# Altium schematic symbol library HighFrequency.SchLib: 4 symbols
Pins are listed as number, name and electrical type; pins without a type are passive.

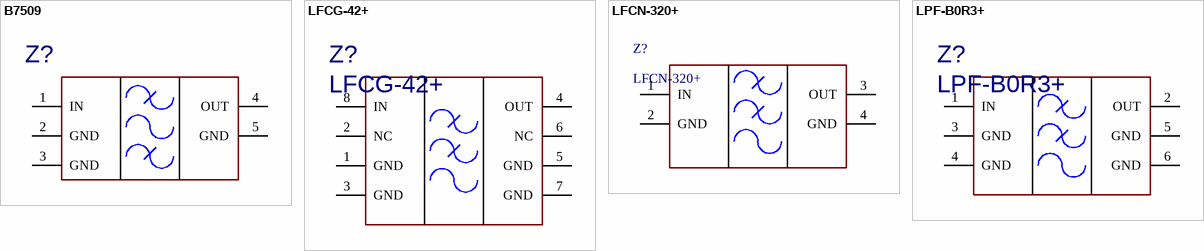
[diagram p0: symbols B7509 to LPF-B0R3+]

## B7509
designator Z?, comment B39242B7509L210  (value not drawn)
Manufacturer: QUALCOMM; ValueManufacturerPartNumber: B39242B7509L210 QUALCOMM; Model: B39242B7509L210; HelpURL: https://www.digikey.com/en/products/detail/qualcomm-rf-front-end-rffe-filters/B39242B7509L210/16909714
pins: 1 IN, 2 GND, 3 GND, 4 OUT, 5 GND

## LFCG-42+
designator Z?
Manufacturer: MINI CIRCUITS; ValueManufacturerPartNumber: LFCG-42+ MINI CIRCUITS; Model: LFCG-42+; Package: GE0805C-2; HelpURL: https://www.minicircuits.com/WebStore/dashboard.html?model=LFCG-42%2B
pins: 1 GND (power), 2 NC, 3 GND, 4 OUT (power), 5 GND, 6 NC, 7 GND, 8 IN (power)

## LFCN-320+
designator Z?
Manufacturer: MINI CIRCUITS; ValueManufacturerPartNumber: LFCN-320+ MINI CIRCUITS; Model: LFCN-320+; Package: FV1206; HelpURL: https://www.minicircuits.com/WebStore/dashboard.html?model=LFCN-320%2B; Supplier 1: Digikey; Supplier Part Number 1: 3157-LFCN-320+CT-ND
pins: 1 IN (power), 2 GND (power), 3 OUT (power), 4 GND

## LPF-B0R3+
designator Z?
Low Pass Filter, 50Ω, DC to 0.3 MHz, 0.25W Max; Manufacturer: MINI CIRCUITS; ValueManufacturerPartNumber: LPF-B0R3+ MINI CIRCUITS; Model: LPF-B0R3+; HelpURL: https://www.minicircuits.com/pdfs/LPF-B0R3+.pdf; Package: HZ1198
pins: 1 IN (power), 2 OUT (power), 3 GND (power), 4 GND, 5 GND, 6 GND